# Altium schematic symbol library SCH - CONNECTORS - WURTH - 7461383.SCHLIB: 1 symbol
Pins are listed as number, name and electrical type; pins without a type are passive.

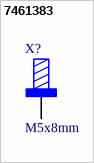
[diagram p0: symbol 7461383]

## 7461383
designator X?, comment M5x8mm
WP-SHFU Press-Fit with External thread, full plain, 9x9mm, 16 pins, M5x8mm, 180A; Manufacturer: Wurth Elektronik; Manufacturer Part Number: 7461383; Height: 12.5mm; Mounting Technology: Press-Fit; Datasheet Link: http://www.we-online.de; Supplier 1: Wurth Elektronik; Supplier 2: Mouser; Supplier Part Number 1: 7461383; Supplier Part Number 2: 710-7461383; Value: 180 A
footprint 7461383_for HAL
footprint 7461383_for chemical surfaces (M5, thread 8mm)
pins: 1